# EAGLE library part SD_CARD (library pcaroli)
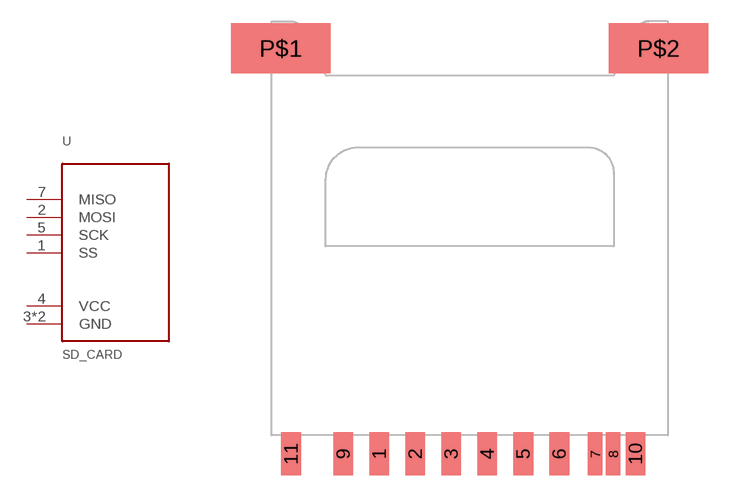
[diagram p3: symbol with the pads of SD_CARD_LAB; footprint SD_CARD_LAB]

Designator prefix -

## SD_CARD  [SD_CARD_LAB]
1  SS
2  MOSI
3  GND
4  VCC
5  SCK
6  GND
7  MISO

## Footprint SD_CARD_LAB (pad centres in mm)
smd 1.397 x 3.048: 1 -6.35,-14.097; 2 -3.81,-14.097; 3 -1.27,-14.097; 4 1.27,-14.097; 5 3.81,-14.097; 6 6.35,-14.097; 9 -8.89,-14.097; 10 11.735,-14.097; 11 -12.57,-14.097
smd 1.016 x 3.048: 7 8.89,-14.097; 8 10.16,-14.097
smd 7 x 3.5: P$1 -13.305,14.5; P$2 13.365,14.5